# Altium integrated library TI Logic Buffer Line Driver.IntLib: 1037 symbols (part 17 of 25)
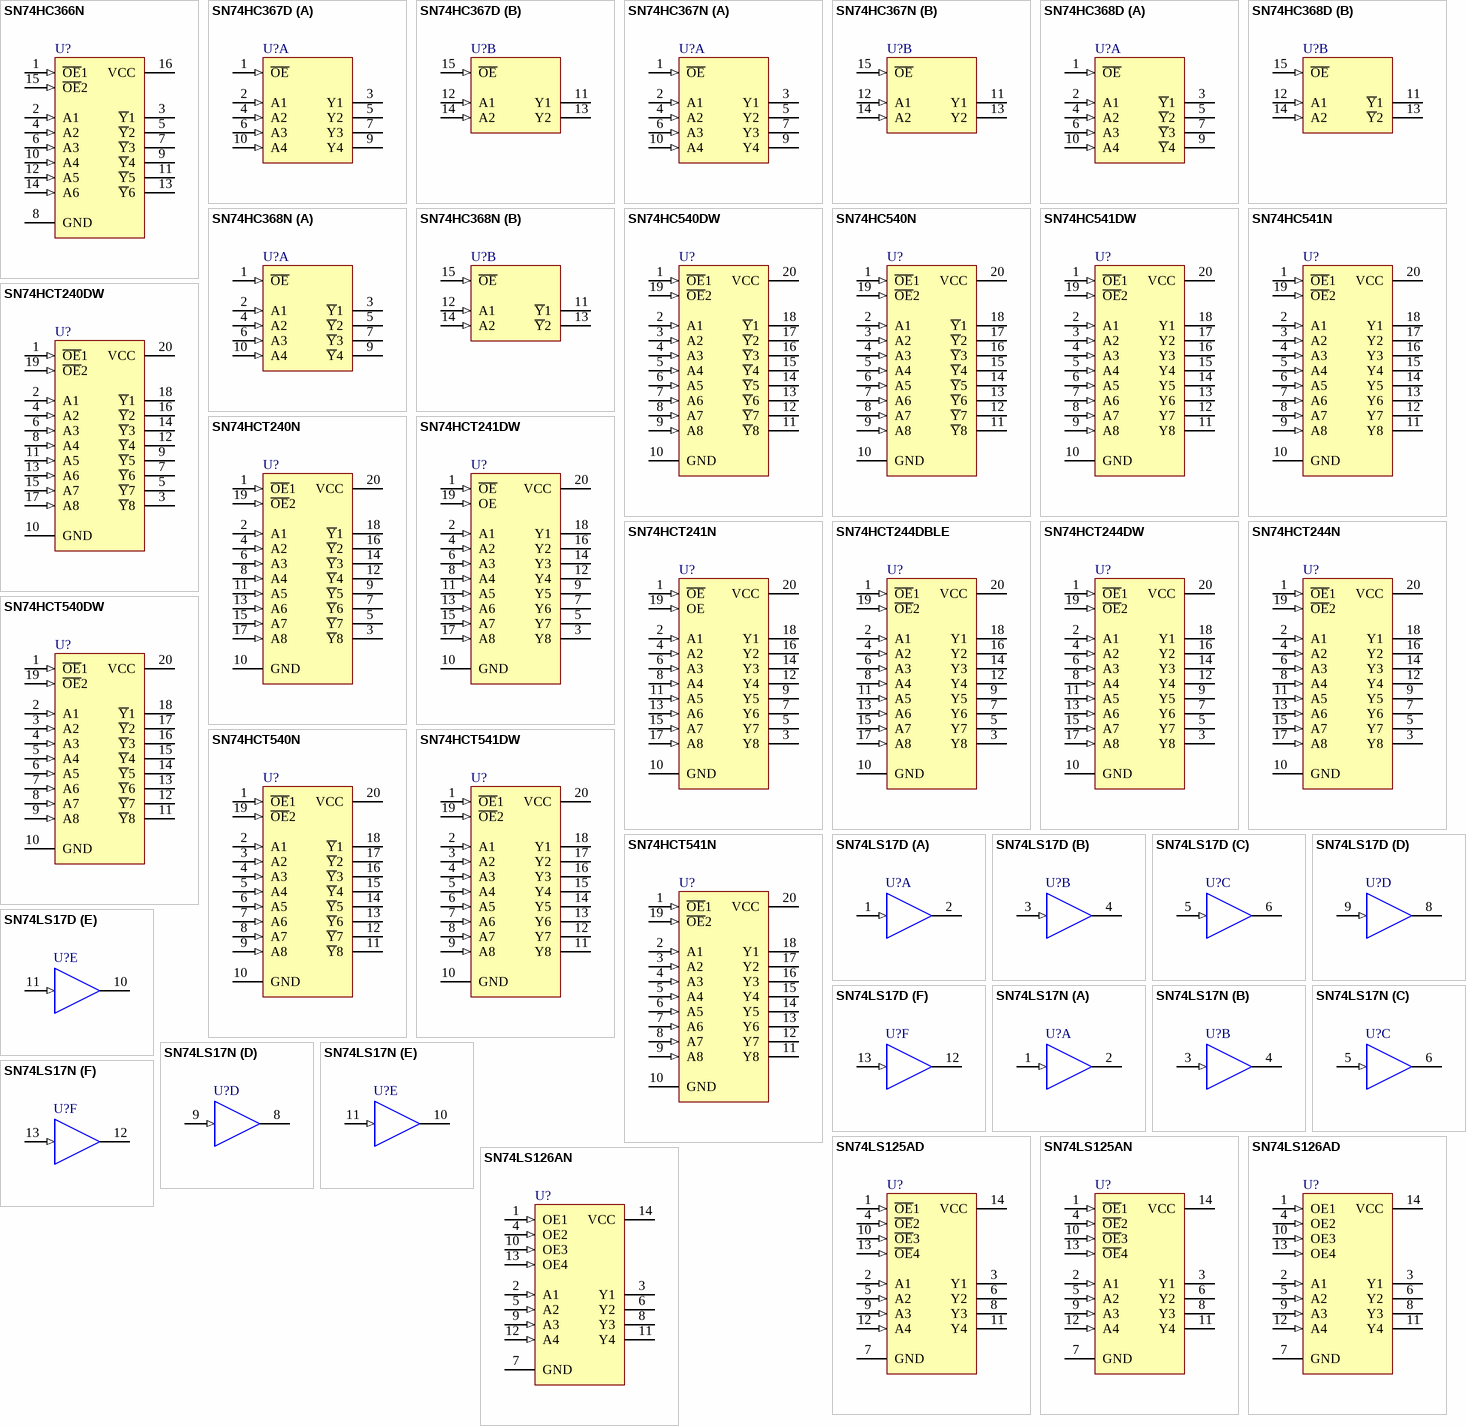
[diagram p61: symbols SN74HC366N to SN74LS126AN]

## SN74LS126AD
designator U?
Quadruple Bus Buffer with 3-State Outputs; Published: 8-Jun-2000; LatestRevisionDate: 13-Apr-2006; LatestRevisionNote: IPC-7351 Footprint Added.; DatasheetVersion: Mar-1988; PackageVersion: Jan-1998; PackageReference: D014; Publisher: Altium Limited; PackageDescription: 14-Pin Small Outline Integrated Circuit 1.27 mm Pitch; Code_IPC: SOIC127P600-14; ComponentLink1Description: Manufacturer Link; ComponentLink1URL: http://www.ti.com/; ComponentLink2Description: Datasheet; ComponentLink2URL: http://www-s.ti.com/sc/ds/sn74ls126a.pdf
footprint D014_N (SOIC, 14-Leads, Body 8.7x3.9mm, Pitch 1.27mm, IPC Medium Density)
footprint D014_L (SOIC, 14-Leads, Body 8.7x3.9mm, Pitch 1.27mm, IPC High Density)
footprint D014_M (SOIC, 14-Leads, Body 8.7x3.9mm, Pitch 1.27mm, IPC Low Density)
3D model D014 (14-Pin Small Outline Integrated Circuit 1.27 mm Pitch)
simulation model SN74LS126X4 (SIMCODE)
signal-integrity model SN74LS126AD
pins: 1 OE1 (in), 2 A1 (in), 3 Y1 (hiz), 4 OE2 (in), 5 A2 (in), 6 Y2 (hiz), 7 GND (power), 8 Y3 (hiz), 9 A3 (in), 10 OE3 (in), 11 Y4 (hiz), 12 A4 (in), 13 OE4 (in), 14 VCC (power)

## SN74LS126AN
designator U?
Quadruple Bus Buffer with 3-State Outputs; Published: 8-Jun-2000; LatestRevisionDate: 06-Jun-2005; LatestRevisionNote: Stylized 3D Model Added.; DatasheetVersion: Mar-1988; PackageVersion: Oct-1995; PackageReference: N014; Publisher: Altium Limited; PackageDescription: DIP; 14 Leads; Row Spacing 7.62 mm; Pitch 2.54 mm; ComponentLink1Description: Manufacturer Link; ComponentLink1URL: http://www.ti.com/; ComponentLink2Description: Datasheet; ComponentLink2URL: http://www-s.ti.com/sc/ds/sn74ls126a.pdf
footprint N014 (DIP; 14 Leads; Row Spacing 7.62 mm; Pitch 2.54 mm)
3D model N014 (DIP; 14 Leads; Row Spacing 7.62 mm; Pitch 2.54 mm)
simulation model SN74LS126X4 (SIMCODE)
signal-integrity model SN74LS126AN
pins: 1 OE1 (in), 2 A1 (in), 3 Y1 (hiz), 4 OE2 (in), 5 A2 (in), 6 Y2 (hiz), 7 GND (power), 8 Y3 (hiz), 9 A3 (in), 10 OE3 (in), 11 Y4 (hiz), 12 A4 (in), 13 OE4 (in), 14 VCC (power)

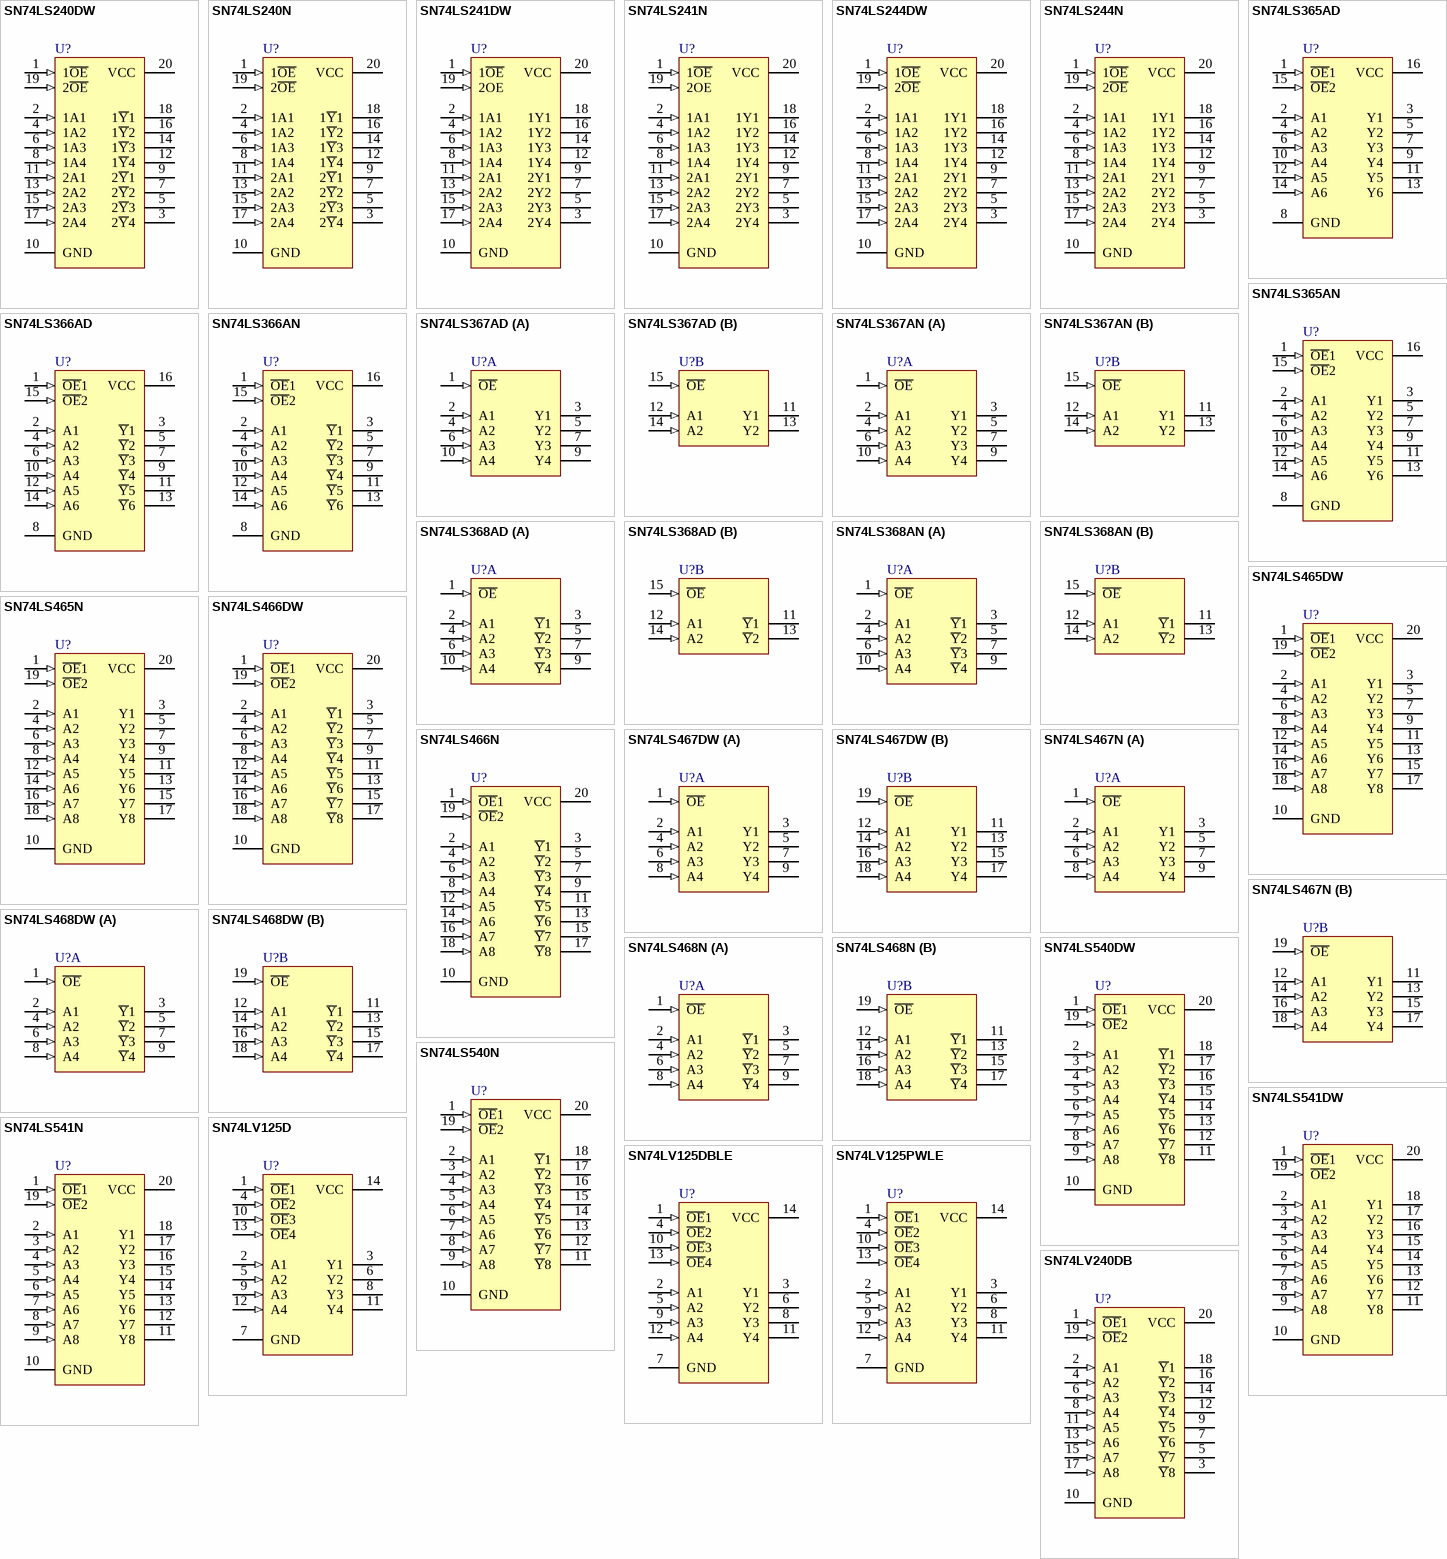
[diagram p30: symbols SN74LS240DW to SN74LV240DB]

## SN74LS240DW
designator U?
Octal Buffer and Line Driver with 3-State Outputs; ComponentAvailability: Obsolete; Published: 8-Jun-2000; LatestRevisionDate: 13-Apr-2006; LatestRevisionNote: IPC-7351 Footprint Added.; DatasheetVersion: Mar-1988; PackageVersion: Mar-2000; PackageReference: DW020; Publisher: Altium Limited; PackageDescription: 20-Pin Plastic Small Outline Integrated Circuit 1.27 mm Pitch; Code_JEDEC: MS-013; Code_IPC: SOIC127P1030-20; ComponentLink1Description: Manufacturer Link; ComponentLink1URL: http://www.ti.com/; ComponentLink2Description: Datasheet; ComponentLink2URL: http://www-s.ti.com/sc/ds/sn74ls240.pdf
footprint DW020_N (SOIC, 20-Leads, Body 12.8x7.5mm, Pitch 1.27mm, IPC Medium Density)
footprint DW020_L (SOIC, 20-Leads, Body 12.8x7.5mm, Pitch 1.27mm, IPC High Density)
footprint DW020_M (SOIC, 20-Leads, Body 12.8x7.5mm, Pitch 1.27mm, IPC Low Density)
3D model DW020 (20-Pin Plastic Small Outline Integrated Circuit 1.27 mm Pitch)
simulation model SN74LS240 (SIMCODE)
signal-integrity model SN74LS240DW
pins: 1 1~{OE} (in), 2 1A1 (in), 3 2~{Y}4 (hiz), 4 1A2 (in), 5 2~{Y}3 (hiz), 6 1A3 (in), 7 2~{Y}2 (hiz), 8 1A4 (in), 9 2~{Y}1 (hiz), 10 GND (power), 11 2A1 (in), 12 1~{Y}4 (hiz), 13 2A2 (in), 14 1~{Y}3 (hiz), 15 2A3 (in), 16 1~{Y}2 (hiz), 17 2A4 (in), 18 1~{Y}1 (hiz), 19 2~{OE} (in), 20 VCC (power)

## SN74LS240N
designator U?
Octal Buffer and Line Driver with 3-State Outputs; ComponentAvailability: Obsolete; Published: 8-Jun-2000; LatestRevisionDate: 06-Jun-2005; LatestRevisionNote: Stylized 3D Model Added.; DatasheetVersion: Mar-1988; PackageVersion: Oct-1995; PackageReference: N020; Publisher: Altium Limited; PackageDescription: DIP; 20 Leads; Row Spacing 7.62 mm; Pitch 2.54 mm; ComponentLink1Description: Manufacturer Link; ComponentLink1URL: http://www.ti.com/; ComponentLink2Description: Datasheet; ComponentLink2URL: http://www-s.ti.com/sc/ds/sn74ls240.pdf
footprint N020 (DIP; 20 Leads; Row Spacing 7.62 mm; Pitch 2.54 mm)
3D model J020 (DIP; 20 Leads; Row Spacing 7.62 mm; Pitch 2.54 mm)
simulation model SN74LS240 (SIMCODE)
signal-integrity model SN74LS240N
pins: 1 1~{OE} (in), 2 1A1 (in), 3 2~{Y}4 (hiz), 4 1A2 (in), 5 2~{Y}3 (hiz), 6 1A3 (in), 7 2~{Y}2 (hiz), 8 1A4 (in), 9 2~{Y}1 (hiz), 10 GND (power), 11 2A1 (in), 12 1~{Y}4 (hiz), 13 2A2 (in), 14 1~{Y}3 (hiz), 15 2A3 (in), 16 1~{Y}2 (hiz), 17 2A4 (in), 18 1~{Y}1 (hiz), 19 2~{OE} (in), 20 VCC (power)

## SN74LS241DW
designator U?
Octal Buffer and Line Driver with 3-State Outputs; ComponentAvailability: Obsolete; Published: 8-Jun-2000; LatestRevisionDate: 13-Apr-2006; LatestRevisionNote: IPC-7351 Footprint Added.; DatasheetVersion: Mar-1988; PackageVersion: Mar-2000; PackageReference: DW020; Publisher: Altium Limited; PackageDescription: 20-Pin Plastic Small Outline Integrated Circuit 1.27 mm Pitch; Code_JEDEC: MS-013; Code_IPC: SOIC127P1030-20; ComponentLink1Description: Manufacturer Link; ComponentLink1URL: http://www.ti.com/; ComponentLink2Description: Datasheet; ComponentLink2URL: http://www-s.ti.com/sc/ds/sn74ls240.pdf
footprint DW020_N (SOIC, 20-Leads, Body 12.8x7.5mm, Pitch 1.27mm, IPC Medium Density)
footprint DW020_L (SOIC, 20-Leads, Body 12.8x7.5mm, Pitch 1.27mm, IPC High Density)
footprint DW020_M (SOIC, 20-Leads, Body 12.8x7.5mm, Pitch 1.27mm, IPC Low Density)
3D model DW020 (20-Pin Plastic Small Outline Integrated Circuit 1.27 mm Pitch)
simulation model SN74LS241 (SIMCODE)
signal-integrity model SN74LS241DW
pins: 1 1~{OE} (in), 2 1A1 (in), 3 2Y4 (hiz), 4 1A2 (in), 5 2Y3 (hiz), 6 1A3 (in), 7 2Y2 (hiz), 8 1A4 (in), 9 2Y1 (hiz), 10 GND (power), 11 2A1 (in), 12 1Y4 (hiz), 13 2A2 (in), 14 1Y3 (hiz), 15 2A3 (in), 16 1Y2 (hiz), 17 2A4 (in), 18 1Y1 (hiz), 19 2OE (in), 20 VCC (power)

## SN74LS241N
designator U?
Octal Buffer and Line Driver with 3-State Outputs; ComponentAvailability: Obsolete; Published: 8-Jun-2000; LatestRevisionDate: 06-Jun-2005; LatestRevisionNote: Stylized 3D Model Added.; DatasheetVersion: Mar-1988; PackageVersion: Oct-1995; PackageReference: N020; Publisher: Altium Limited; PackageDescription: DIP; 20 Leads; Row Spacing 7.62 mm; Pitch 2.54 mm; ComponentLink1Description: Manufacturer Link; ComponentLink1URL: http://www.ti.com/; ComponentLink2Description: Datasheet; ComponentLink2URL: http://www-s.ti.com/sc/ds/sn74ls240.pdf
footprint N020 (DIP; 20 Leads; Row Spacing 7.62 mm; Pitch 2.54 mm)
3D model J020 (DIP; 20 Leads; Row Spacing 7.62 mm; Pitch 2.54 mm)
simulation model SN74LS241 (SIMCODE)
signal-integrity model SN74LS241N
pins: 1 1~{OE} (in), 2 1A1 (in), 3 2Y4 (hiz), 4 1A2 (in), 5 2Y3 (hiz), 6 1A3 (in), 7 2Y2 (hiz), 8 1A4 (in), 9 2Y1 (hiz), 10 GND (power), 11 2A1 (in), 12 1Y4 (hiz), 13 2A2 (in), 14 1Y3 (hiz), 15 2A3 (in), 16 1Y2 (hiz), 17 2A4 (in), 18 1Y1 (hiz), 19 2OE (in), 20 VCC (power)

## SN74LS244DW
designator U?
Octal Buffer and Line Driver with 3-State Outputs; ComponentAvailability: Obsolete; Published: 8-Jun-2000; LatestRevisionDate: 13-Apr-2006; LatestRevisionNote: IPC-7351 Footprint Added.; DatasheetVersion: Mar-1988; PackageVersion: Mar-2000; PackageReference: DW020; Publisher: Altium Limited; PackageDescription: 20-Pin Plastic Small Outline Integrated Circuit 1.27 mm Pitch; Code_JEDEC: MS-013; Code_IPC: SOIC127P1030-20; ComponentLink1Description: Manufacturer Link; ComponentLink1URL: http://www.ti.com/; ComponentLink2Description: Datasheet; ComponentLink2URL: http://www-s.ti.com/sc/ds/sn74ls240.pdf
footprint DW020_N (SOIC, 20-Leads, Body 12.8x7.5mm, Pitch 1.27mm, IPC Medium Density)
footprint DW020_L (SOIC, 20-Leads, Body 12.8x7.5mm, Pitch 1.27mm, IPC High Density)
footprint DW020_M (SOIC, 20-Leads, Body 12.8x7.5mm, Pitch 1.27mm, IPC Low Density)
3D model DW020 (20-Pin Plastic Small Outline Integrated Circuit 1.27 mm Pitch)
simulation model SN74LS244 (SIMCODE)
signal-integrity model SN74LS244DW
pins: 1 1~{OE} (in), 2 1A1 (in), 3 2Y4 (hiz), 4 1A2 (in), 5 2Y3 (hiz), 6 1A3 (in), 7 2Y2 (hiz), 8 1A4 (in), 9 2Y1 (hiz), 10 GND (power), 11 2A1 (in), 12 1Y4 (hiz), 13 2A2 (in), 14 1Y3 (hiz), 15 2A3 (in), 16 1Y2 (hiz), 17 2A4 (in), 18 1Y1 (hiz), 19 2~{OE} (in), 20 VCC (power)

## SN74LS244N
designator U?
Octal Buffer and Line Driver with 3-State Outputs; ComponentAvailability: Obsolete; Published: 8-Jun-2000; LatestRevisionDate: 06-Jun-2005; LatestRevisionNote: Stylized 3D Model Added.; DatasheetVersion: Mar-1988; PackageVersion: Oct-1995; PackageReference: N020; Publisher: Altium Limited; PackageDescription: DIP; 20 Leads; Row Spacing 7.62 mm; Pitch 2.54 mm; ComponentLink1Description: Manufacturer Link; ComponentLink1URL: http://www.ti.com/; ComponentLink2Description: Datasheet; ComponentLink2URL: http://www-s.ti.com/sc/ds/sn74ls240.pdf
footprint N020 (DIP; 20 Leads; Row Spacing 7.62 mm; Pitch 2.54 mm)
3D model J020 (DIP; 20 Leads; Row Spacing 7.62 mm; Pitch 2.54 mm)
simulation model SN74LS244 (SIMCODE)
signal-integrity model SN74LS244N
pins: 1 1~{OE} (in), 2 1A1 (in), 3 2Y4 (hiz), 4 1A2 (in), 5 2Y3 (hiz), 6 1A3 (in), 7 2Y2 (hiz), 8 1A4 (in), 9 2Y1 (hiz), 10 GND (power), 11 2A1 (in), 12 1Y4 (hiz), 13 2A2 (in), 14 1Y3 (hiz), 15 2A3 (in), 16 1Y2 (hiz), 17 2A4 (in), 18 1Y1 (hiz), 19 2~{OE} (in), 20 VCC (power)

## SN74LS365AD
designator U?
Hex Bus Driver with 3-State Outputs; Published: 8-Jun-2000; LatestRevisionDate: 13-Apr-2006; LatestRevisionNote: IPC-7351 Footprint Added.; DatasheetVersion: Mar-1988; PackageVersion: Jan-1998; PackageReference: D016; Publisher: Altium Limited; PackageDescription: 16-Pin Small Outline Integrated Circuit 1.27 mm Pitch; Code_IPC: SOIC127P600-16; ComponentLink1Description: Manufacturer Link; ComponentLink1URL: http://www.ti.com/; ComponentLink2Description: Datasheet; ComponentLink2URL: http://www-s.ti.com/sc/ds/sn74367a.pdf
footprint D016_N (SOIC, 16-Leads, Body 9.9x3.9mm, Pitch 1.27mm, IPC Medium Density)
footprint D016_L (SOIC, 16-Leads, Body 9.9x3.9mm, Pitch 1.27mm, IPC High Density)
footprint D016_M (SOIC, 16-Leads, Body 9.9x3.9mm, Pitch 1.27mm, IPC Low Density)
3D model D016 (16-Pin Small Outline Integrated Circuit 1.27 mm Pitch)
signal-integrity model SN74LS365AD
pins: 1 ~{OE}1 (in), 2 A1 (in), 3 Y1 (hiz), 4 A2 (in), 5 Y2 (hiz), 6 A3 (in), 7 Y3 (hiz), 8 GND (power), 9 Y4 (hiz), 10 A4 (in), 11 Y5 (hiz), 12 A5 (in), 13 Y6 (hiz), 14 A6 (in), 15 ~{OE}2 (in), 16 VCC (power)

## SN74LS365AN
designator U?
Hex Bus Driver with 3-State Outputs; Published: 8-Jun-2000; LatestRevisionDate: 06-Jun-2005; LatestRevisionNote: Stylized 3D Model Added.; DatasheetVersion: Mar-1988; PackageVersion: Oct-1995; PackageReference: N016; Publisher: Altium Limited; PackageDescription: DIP; 16 Leads; Row Spacing 7.62 mm; Pitch 2.54 mm; Code_JEDEC: MS-001-BB; ComponentLink1Description: Manufacturer Link; ComponentLink1URL: http://www.ti.com/; ComponentLink2Description: Datasheet; ComponentLink2URL: http://www-s.ti.com/sc/ds/sn74367a.pdf
footprint N016 (DIP; 16 Leads; Row Spacing 7.62 mm; Pitch 2.54 mm)
3D model N016 (DIP; 16 Leads; Row Spacing 7.62 mm; Pitch 2.54 mm)
signal-integrity model SN74LS365AN
pins: 1 ~{OE}1 (in), 2 A1 (in), 3 Y1 (hiz), 4 A2 (in), 5 Y2 (hiz), 6 A3 (in), 7 Y3 (hiz), 8 GND (power), 9 Y4 (hiz), 10 A4 (in), 11 Y5 (hiz), 12 A5 (in), 13 Y6 (hiz), 14 A6 (in), 15 ~{OE}2 (in), 16 VCC (power)

## SN74LS366AD
designator U?
Hex Bus Driver with 3-State Outputs; ComponentAvailability: Obsolete; Published: 8-Jun-2000; LatestRevisionDate: 13-Apr-2006; LatestRevisionNote: IPC-7351 Footprint Added.; DatasheetVersion: Mar-1988; PackageVersion: Jan-1998; PackageReference: D016; Publisher: Altium Limited; PackageDescription: 16-Pin Small Outline Integrated Circuit 1.27 mm Pitch; Code_IPC: SOIC127P600-16; ComponentLink1Description: Manufacturer Link; ComponentLink1URL: http://www.ti.com/; ComponentLink2Description: Datasheet; ComponentLink2URL: http://www-s.ti.com/sc/ds/sn74367a.pdf
footprint D016_N (SOIC, 16-Leads, Body 9.9x3.9mm, Pitch 1.27mm, IPC Medium Density)
footprint D016_L (SOIC, 16-Leads, Body 9.9x3.9mm, Pitch 1.27mm, IPC High Density)
footprint D016_M (SOIC, 16-Leads, Body 9.9x3.9mm, Pitch 1.27mm, IPC Low Density)
3D model D016 (16-Pin Small Outline Integrated Circuit 1.27 mm Pitch)
signal-integrity model SN74LS366AD
pins: 1 ~{OE}1 (in), 2 A1 (in), 3 ~{Y}1 (hiz), 4 A2 (in), 5 ~{Y}2 (hiz), 6 A3 (in), 7 ~{Y}3 (hiz), 8 GND (power), 9 ~{Y}4 (hiz), 10 A4 (in), 11 ~{Y}5 (hiz), 12 A5 (in), 13 ~{Y}6 (hiz), 14 A6 (in), 15 ~{OE}2 (in), 16 VCC (power)

## SN74LS366AN
designator U?
Hex Bus Driver with 3-State Outputs; ComponentAvailability: Obsolete; Published: 8-Jun-2000; LatestRevisionDate: 06-Jun-2005; LatestRevisionNote: Stylized 3D Model Added.; DatasheetVersion: Mar-1988; PackageVersion: Oct-1995; PackageReference: N016; Publisher: Altium Limited; PackageDescription: DIP; 16 Leads; Row Spacing 7.62 mm; Pitch 2.54 mm; Code_JEDEC: MS-001-BB; ComponentLink1Description: Manufacturer Link; ComponentLink1URL: http://www.ti.com/; ComponentLink2Description: Datasheet; ComponentLink2URL: http://www-s.ti.com/sc/ds/sn74367a.pdf
footprint N016 (DIP; 16 Leads; Row Spacing 7.62 mm; Pitch 2.54 mm)
3D model N016 (DIP; 16 Leads; Row Spacing 7.62 mm; Pitch 2.54 mm)
signal-integrity model SN74LS366AN
pins: 1 ~{OE}1 (in), 2 A1 (in), 3 ~{Y}1 (hiz), 4 A2 (in), 5 ~{Y}2 (hiz), 6 A3 (in), 7 ~{Y}3 (hiz), 8 GND (power), 9 ~{Y}4 (hiz), 10 A4 (in), 11 ~{Y}5 (hiz), 12 A5 (in), 13 ~{Y}6 (hiz), 14 A6 (in), 15 ~{OE}2 (in), 16 VCC (power)

## SN74LS367AD
designator U?
Hex Bus Driver with 3-State Outputs; Published: 8-Jun-2000; LatestRevisionDate: 13-Apr-2006; LatestRevisionNote: IPC-7351 Footprint Added.; DatasheetVersion: Mar-1988; PackageVersion: Jan-1998; PackageReference: D016; Publisher: Altium Limited; PackageDescription: 16-Pin Small Outline Integrated Circuit 1.27 mm Pitch; Code_IPC: SOIC127P600-16; ComponentLink1Description: Manufacturer Link; ComponentLink1URL: http://www.ti.com/; ComponentLink2Description: Datasheet; ComponentLink2URL: http://www-s.ti.com/sc/ds/sn74367a.pdf
footprint D016_N (SOIC, 16-Leads, Body 9.9x3.9mm, Pitch 1.27mm, IPC Medium Density)
footprint D016_L (SOIC, 16-Leads, Body 9.9x3.9mm, Pitch 1.27mm, IPC High Density)
footprint D016_M (SOIC, 16-Leads, Body 9.9x3.9mm, Pitch 1.27mm, IPC Low Density)
3D model D016 (16-Pin Small Outline Integrated Circuit 1.27 mm Pitch)
signal-integrity model SN74LS367AD
pins on every part: 8 GND (power) hidden to GND, 16 VCC (power) hidden to VCC
part A pins: 1 ~{OE} (in), 2 A1 (in), 3 Y1 (hiz), 4 A2 (in), 5 Y2 (hiz), 6 A3 (in), 7 Y3 (hiz), 9 Y4 (hiz), 10 A4 (in)
part B pins: 11 Y1 (hiz), 12 A1 (in), 13 Y2 (hiz), 14 A2 (in), 15 ~{OE} (in)

## SN74LS367AN
designator U?
Hex Bus Driver with 3-State Outputs; Published: 8-Jun-2000; LatestRevisionDate: 06-Jun-2005; LatestRevisionNote: Stylized 3D Model Added.; DatasheetVersion: Mar-1988; PackageVersion: Oct-1995; PackageReference: N016; Publisher: Altium Limited; PackageDescription: DIP; 16 Leads; Row Spacing 7.62 mm; Pitch 2.54 mm; Code_JEDEC: MS-001-BB; ComponentLink1Description: Manufacturer Link; ComponentLink1URL: http://www.ti.com/; ComponentLink2Description: Datasheet; ComponentLink2URL: http://www-s.ti.com/sc/ds/sn74367a.pdf
footprint N016 (DIP; 16 Leads; Row Spacing 7.62 mm; Pitch 2.54 mm)
3D model N016 (DIP; 16 Leads; Row Spacing 7.62 mm; Pitch 2.54 mm)
signal-integrity model SN74LS367AN
pins on every part: 8 GND (power) hidden to GND, 16 VCC (power) hidden to VCC
part A pins: 1 ~{OE} (in), 2 A1 (in), 3 Y1 (hiz), 4 A2 (in), 5 Y2 (hiz), 6 A3 (in), 7 Y3 (hiz), 9 Y4 (hiz), 10 A4 (in)
part B pins: 11 Y1 (hiz), 12 A1 (in), 13 Y2 (hiz), 14 A2 (in), 15 ~{OE} (in)

## SN74LS368AD
designator U?
Hex Bus Driver with 3-State Outputs; Published: 8-Jun-2000; LatestRevisionDate: 13-Apr-2006; LatestRevisionNote: IPC-7351 Footprint Added.; DatasheetVersion: Mar-1988; PackageVersion: Jan-1998; PackageReference: D016; Publisher: Altium Limited; PackageDescription: 16-Pin Small Outline Integrated Circuit 1.27 mm Pitch; Code_IPC: SOIC127P600-16; ComponentLink1Description: Manufacturer Link; ComponentLink1URL: http://www.ti.com/; ComponentLink2Description: Datasheet; ComponentLink2URL: http://www-s.ti.com/sc/ds/sn74367a.pdf
footprint D016_N (SOIC, 16-Leads, Body 9.9x3.9mm, Pitch 1.27mm, IPC Medium Density)
footprint D016_L (SOIC, 16-Leads, Body 9.9x3.9mm, Pitch 1.27mm, IPC High Density)
footprint D016_M (SOIC, 16-Leads, Body 9.9x3.9mm, Pitch 1.27mm, IPC Low Density)
3D model D016 (16-Pin Small Outline Integrated Circuit 1.27 mm Pitch)
signal-integrity model SN74LS368AD
pins on every part: 8 GND (power) hidden to GND, 16 VCC (power) hidden to VCC
part A pins: 1 ~{OE} (in), 2 A1 (in), 3 ~{Y}1 (hiz), 4 A2 (in), 5 ~{Y}2 (hiz), 6 A3 (in), 7 ~{Y}3 (hiz), 9 ~{Y}4 (hiz), 10 A4 (in)
part B pins: 11 ~{Y}1 (hiz), 12 A1 (in), 13 ~{Y}2 (hiz), 14 A2 (in), 15 ~{OE} (in)

## SN74LS368AN
designator U?
Hex Bus Driver with 3-State Outputs; Published: 8-Jun-2000; LatestRevisionDate: 06-Jun-2005; LatestRevisionNote: Stylized 3D Model Added.; DatasheetVersion: Mar-1988; PackageVersion: Oct-1995; PackageReference: N016; Publisher: Altium Limited; PackageDescription: DIP; 16 Leads; Row Spacing 7.62 mm; Pitch 2.54 mm; Code_JEDEC: MS-001-BB; ComponentLink1Description: Manufacturer Link; ComponentLink1URL: http://www.ti.com/; ComponentLink2Description: Datasheet; ComponentLink2URL: http://www-s.ti.com/sc/ds/sn74367a.pdf
footprint N016 (DIP; 16 Leads; Row Spacing 7.62 mm; Pitch 2.54 mm)
3D model N016 (DIP; 16 Leads; Row Spacing 7.62 mm; Pitch 2.54 mm)
signal-integrity model SN74LS368AN
pins on every part: 8 GND (power) hidden to GND, 16 VCC (power) hidden to VCC
part A pins: 1 ~{OE} (in), 2 A1 (in), 3 ~{Y}1 (hiz), 4 A2 (in), 5 ~{Y}2 (hiz), 6 A3 (in), 7 ~{Y}3 (hiz), 9 ~{Y}4 (hiz), 10 A4 (in)
part B pins: 11 ~{Y}1 (hiz), 12 A1 (in), 13 ~{Y}2 (hiz), 14 A2 (in), 15 ~{OE} (in)

## SN74LS465DW
designator U?
Octal Buffer with 3-State Outputs; Published: 8-Jun-2000; LatestRevisionDate: 13-Apr-2006; LatestRevisionNote: IPC-7351 Footprint Added.; DatasheetVersion: Mar-1988; PackageVersion: Mar-2000; PackageReference: DW020; Publisher: Altium Limited; PackageDescription: 20-Pin Plastic Small Outline Integrated Circuit 1.27 mm Pitch; Code_JEDEC: MS-013; Code_IPC: SOIC127P1030-20; ComponentLink1Description: Manufacturer Link; ComponentLink1URL: http://www.ti.com/; ComponentLink2Description: Datasheet; ComponentLink2URL: http://www-s.ti.com/sc/ds/sn74ls465.pdf
footprint DW020_N (SOIC, 20-Leads, Body 12.8x7.5mm, Pitch 1.27mm, IPC Medium Density)
footprint DW020_L (SOIC, 20-Leads, Body 12.8x7.5mm, Pitch 1.27mm, IPC High Density)
footprint DW020_M (SOIC, 20-Leads, Body 12.8x7.5mm, Pitch 1.27mm, IPC Low Density)
3D model DW020 (20-Pin Plastic Small Outline Integrated Circuit 1.27 mm Pitch)
signal-integrity model SN74LS465DW
pins: 1 ~{OE}1 (in), 2 A1 (in), 3 Y1 (hiz), 4 A2 (in), 5 Y2 (hiz), 6 A3 (in), 7 Y3 (hiz), 8 A4 (in), 9 Y4 (hiz), 10 GND (power), 11 Y5 (hiz), 12 A5 (in), 13 Y6 (hiz), 14 A6 (in), 15 Y7 (hiz), 16 A7 (in), 17 Y8 (hiz), 18 A8 (in), 19 ~{OE}2 (in), 20 VCC (power)

## SN74LS465N
designator U?
Octal Buffer with 3-State Outputs; Published: 8-Jun-2000; LatestRevisionDate: 06-Jun-2005; LatestRevisionNote: Stylized 3D Model Added.; DatasheetVersion: Mar-1988; PackageVersion: Oct-1995; PackageReference: N020; Publisher: Altium Limited; PackageDescription: DIP; 20 Leads; Row Spacing 7.62 mm; Pitch 2.54 mm; ComponentLink1Description: Manufacturer Link; ComponentLink1URL: http://www.ti.com/; ComponentLink2Description: Datasheet; ComponentLink2URL: http://www-s.ti.com/sc/ds/sn74ls465.pdf
footprint N020 (DIP; 20 Leads; Row Spacing 7.62 mm; Pitch 2.54 mm)
3D model J020 (DIP; 20 Leads; Row Spacing 7.62 mm; Pitch 2.54 mm)
signal-integrity model SN74LS465N
pins: 1 ~{OE}1 (in), 2 A1 (in), 3 Y1 (hiz), 4 A2 (in), 5 Y2 (hiz), 6 A3 (in), 7 Y3 (hiz), 8 A4 (in), 9 Y4 (hiz), 10 GND (power), 11 Y5 (hiz), 12 A5 (in), 13 Y6 (hiz), 14 A6 (in), 15 Y7 (hiz), 16 A7 (in), 17 Y8 (hiz), 18 A8 (in), 19 ~{OE}2 (in), 20 VCC (power)

## SN74LS466DW
designator U?
Octal Buffer with 3-State Outputs; ComponentAvailability: Obsolete; Published: 8-Jun-2000; LatestRevisionDate: 13-Apr-2006; LatestRevisionNote: IPC-7351 Footprint Added.; DatasheetVersion: Mar-1988; PackageVersion: Mar-2000; PackageReference: DW020; Publisher: Altium Limited; PackageDescription: 20-Pin Plastic Small Outline Integrated Circuit 1.27 mm Pitch; Code_JEDEC: MS-013; Code_IPC: SOIC127P1030-20; ComponentLink1Description: Manufacturer Link; ComponentLink1URL: http://www.ti.com/; ComponentLink2Description: Datasheet; ComponentLink2URL: http://www-s.ti.com/sc/ds/sn74ls465.pdf
footprint DW020_N (SOIC, 20-Leads, Body 12.8x7.5mm, Pitch 1.27mm, IPC Medium Density)
footprint DW020_L (SOIC, 20-Leads, Body 12.8x7.5mm, Pitch 1.27mm, IPC High Density)
footprint DW020_M (SOIC, 20-Leads, Body 12.8x7.5mm, Pitch 1.27mm, IPC Low Density)
3D model DW020 (20-Pin Plastic Small Outline Integrated Circuit 1.27 mm Pitch)
signal-integrity model SN74LS466DW
pins: 1 ~{OE}1 (in), 2 A1 (in), 3 ~{Y}1 (hiz), 4 A2 (in), 5 ~{Y}2 (hiz), 6 A3 (in), 7 ~{Y}3 (hiz), 8 A4 (in), 9 ~{Y}4 (hiz), 10 GND (power), 11 ~{Y}5 (hiz), 12 A5 (in), 13 ~{Y}6 (hiz), 14 A6 (in), 15 ~{Y}7 (hiz), 16 A7 (in), 17 ~{Y}8 (hiz), 18 A8 (in), 19 ~{OE}2 (in), 20 VCC (power)

## SN74LS466N
designator U?
Octal Buffer with 3-State Outputs; ComponentAvailability: Obsolete; Published: 8-Jun-2000; LatestRevisionDate: 06-Jun-2005; LatestRevisionNote: Stylized 3D Model Added.; DatasheetVersion: Mar-1988; PackageVersion: Oct-1995; PackageReference: N020; Publisher: Altium Limited; PackageDescription: DIP; 20 Leads; Row Spacing 7.62 mm; Pitch 2.54 mm; ComponentLink1Description: Manufacturer Link; ComponentLink1URL: http://www.ti.com/; ComponentLink2Description: Datasheet; ComponentLink2URL: http://www-s.ti.com/sc/ds/sn74ls465.pdf
footprint N020 (DIP; 20 Leads; Row Spacing 7.62 mm; Pitch 2.54 mm)
3D model J020 (DIP; 20 Leads; Row Spacing 7.62 mm; Pitch 2.54 mm)
signal-integrity model SN74LS466N
pins: 1 ~{OE}1 (in), 2 A1 (in), 3 ~{Y}1 (hiz), 4 A2 (in), 5 ~{Y}2 (hiz), 6 A3 (in), 7 ~{Y}3 (hiz), 8 A4 (in), 9 ~{Y}4 (hiz), 10 GND (power), 11 ~{Y}5 (hiz), 12 A5 (in), 13 ~{Y}6 (hiz), 14 A6 (in), 15 ~{Y}7 (hiz), 16 A7 (in), 17 ~{Y}8 (hiz), 18 A8 (in), 19 ~{OE}2 (in), 20 VCC (power)

## SN74LS467DW
designator U?
Octal Buffer with 3-State Outputs; ComponentAvailability: Obsolete; Published: 8-Jun-2000; LatestRevisionDate: 13-Apr-2006; LatestRevisionNote: IPC-7351 Footprint Added.; DatasheetVersion: Mar-1988; PackageVersion: Mar-2000; PackageReference: DW020; Publisher: Altium Limited; PackageDescription: 20-Pin Plastic Small Outline Integrated Circuit 1.27 mm Pitch; Code_JEDEC: MS-013; Code_IPC: SOIC127P1030-20; ComponentLink1Description: Manufacturer Link; ComponentLink1URL: http://www.ti.com/; ComponentLink2Description: Datasheet; ComponentLink2URL: http://www-s.ti.com/sc/ds/sn74ls465.pdf; ComponentLink3Description: Discontinuation Notice; ComponentLink3URL: http://focus.ti.com/docs/prod/folders/print/sn74ls467.html
footprint DW020_N (SOIC, 20-Leads, Body 12.8x7.5mm, Pitch 1.27mm, IPC Medium Density)
footprint DW020_L (SOIC, 20-Leads, Body 12.8x7.5mm, Pitch 1.27mm, IPC High Density)
footprint DW020_M (SOIC, 20-Leads, Body 12.8x7.5mm, Pitch 1.27mm, IPC Low Density)
3D model DW020 (20-Pin Plastic Small Outline Integrated Circuit 1.27 mm Pitch)
signal-integrity model SN74LS467DW
pins on every part: 10 GND (power) hidden to GND, 20 VCC (power) hidden to VCC
part A pins: 1 ~{OE} (in), 2 A1 (in), 3 Y1 (hiz), 4 A2 (in), 5 Y2 (hiz), 6 A3 (in), 7 Y3 (hiz), 8 A4 (in), 9 Y4 (hiz)
part B pins: 11 Y1 (hiz), 12 A1 (in), 13 Y2 (hiz), 14 A2 (in), 15 Y3 (hiz), 16 A3 (in), 17 Y4 (hiz), 18 A4 (in), 19 ~{OE} (in)

## SN74LS467N
designator U?
Octal Buffer with 3-State Outputs; ComponentAvailability: Obsolete; Published: 8-Jun-2000; LatestRevisionDate: 06-Jun-2005; LatestRevisionNote: Stylized 3D Model Added.; DatasheetVersion: Mar-1988; PackageVersion: Oct-1995; PackageReference: N020; Publisher: Altium Limited; PackageDescription: DIP; 20 Leads; Row Spacing 7.62 mm; Pitch 2.54 mm; ComponentLink1Description: Manufacturer Link; ComponentLink1URL: http://www.ti.com/; ComponentLink2Description: Datasheet; ComponentLink2URL: http://www-s.ti.com/sc/ds/sn74ls465.pdf; ComponentLink3Description: Discontinuation Notice; ComponentLink3URL: http://focus.ti.com/docs/prod/folders/print/sn74ls467.html
footprint N020 (DIP; 20 Leads; Row Spacing 7.62 mm; Pitch 2.54 mm)
3D model J020 (DIP; 20 Leads; Row Spacing 7.62 mm; Pitch 2.54 mm)
signal-integrity model SN74LS467N
pins on every part: 10 GND (power) hidden to GND, 20 VCC (power) hidden to VCC
part A pins: 1 ~{OE} (in), 2 A1 (in), 3 Y1 (hiz), 4 A2 (in), 5 Y2 (hiz), 6 A3 (in), 7 Y3 (hiz), 8 A4 (in), 9 Y4 (hiz)
part B pins: 11 Y1 (hiz), 12 A1 (in), 13 Y2 (hiz), 14 A2 (in), 15 Y3 (hiz), 16 A3 (in), 17 Y4 (hiz), 18 A4 (in), 19 ~{OE} (in)

## SN74LS468DW
designator U?
Octal Buffer with 3-State Outputs; ComponentAvailability: Obsolete; Published: 8-Jun-2000; LatestRevisionDate: 13-Apr-2006; LatestRevisionNote: IPC-7351 Footprint Added.; DatasheetVersion: Mar-1988; PackageVersion: Mar-2000; PackageReference: DW020; Publisher: Altium Limited; PackageDescription: 20-Pin Plastic Small Outline Integrated Circuit 1.27 mm Pitch; Code_JEDEC: MS-013; Code_IPC: SOIC127P1030-20; ComponentLink1Description: Manufacturer Link; ComponentLink1URL: http://www.ti.com/; ComponentLink2Description: Datasheet; ComponentLink2URL: http://www-s.ti.com/sc/ds/sn74ls465.pdf; ComponentLink3Description: Discontinuation Notice; ComponentLink3URL: http://focus.ti.com/docs/prod/folders/print/sn74ls468.html
footprint DW020_N (SOIC, 20-Leads, Body 12.8x7.5mm, Pitch 1.27mm, IPC Medium Density)
footprint DW020_L (SOIC, 20-Leads, Body 12.8x7.5mm, Pitch 1.27mm, IPC High Density)
footprint DW020_M (SOIC, 20-Leads, Body 12.8x7.5mm, Pitch 1.27mm, IPC Low Density)
3D model DW020 (20-Pin Plastic Small Outline Integrated Circuit 1.27 mm Pitch)
signal-integrity model SN74LS468DW
pins on every part: 10 GND (power) hidden to GND, 20 VCC (power) hidden to VCC
part A pins: 1 ~{OE} (in), 2 A1 (in), 3 ~{Y}1 (hiz), 4 A2 (in), 5 ~{Y}2 (hiz), 6 A3 (in), 7 ~{Y}3 (hiz), 8 A4 (in), 9 ~{Y}4 (hiz)
part B pins: 11 ~{Y}1 (hiz), 12 A1 (in), 13 ~{Y}2 (hiz), 14 A2 (in), 15 ~{Y}3 (hiz), 16 A3 (in), 17 ~{Y}4 (hiz), 18 A4 (in), 19 ~{OE} (in)

## SN74LS468N
designator U?
Octal Buffer with 3-State Outputs; ComponentAvailability: Obsolete; Published: 8-Jun-2000; LatestRevisionDate: 06-Jun-2005; LatestRevisionNote: Stylized 3D Model Added.; DatasheetVersion: Mar-1988; PackageVersion: Oct-1995; PackageReference: N020; Publisher: Altium Limited; PackageDescription: DIP; 20 Leads; Row Spacing 7.62 mm; Pitch 2.54 mm; ComponentLink1Description: Manufacturer Link; ComponentLink1URL: http://www.ti.com/; ComponentLink2Description: Datasheet; ComponentLink2URL: http://www-s.ti.com/sc/ds/sn74ls465.pdf; ComponentLink3Description: Discontinuation Notice; ComponentLink3URL: http://focus.ti.com/docs/prod/folders/print/sn74ls468.html
footprint N020 (DIP; 20 Leads; Row Spacing 7.62 mm; Pitch 2.54 mm)
3D model J020 (DIP; 20 Leads; Row Spacing 7.62 mm; Pitch 2.54 mm)
signal-integrity model SN74LS468N
pins on every part: 10 GND (power) hidden to GND, 20 VCC (power) hidden to VCC
part A pins: 1 ~{OE} (in), 2 A1 (in), 3 ~{Y}1 (hiz), 4 A2 (in), 5 ~{Y}2 (hiz), 6 A3 (in), 7 ~{Y}3 (hiz), 8 A4 (in), 9 ~{Y}4 (hiz)
part B pins: 11 ~{Y}1 (hiz), 12 A1 (in), 13 ~{Y}2 (hiz), 14 A2 (in), 15 ~{Y}3 (hiz), 16 A3 (in), 17 ~{Y}4 (hiz), 18 A4 (in), 19 ~{OE} (in)

## SN74LS540DW
designator U?
Octal Buffer and Line Driver with 3-State Outputs; Published: 8-Jun-2000; LatestRevisionDate: 13-Apr-2006; LatestRevisionNote: IPC-7351 Footprint Added.; DatasheetVersion: Mar-1988; PackageVersion: Mar-2000; PackageReference: DW020; Publisher: Altium Limited; PackageDescription: 20-Pin Plastic Small Outline Integrated Circuit 1.27 mm Pitch; Code_JEDEC: MS-013; Code_IPC: SOIC127P1030-20; ComponentLink1Description: Manufacturer Link; ComponentLink1URL: http://www.ti.com/; ComponentLink2Description: Datasheet; ComponentLink2URL: http://www-s.ti.com/sc/ds/sn74ls540.pdf
footprint DW020_N (SOIC, 20-Leads, Body 12.8x7.5mm, Pitch 1.27mm, IPC Medium Density)
footprint DW020_L (SOIC, 20-Leads, Body 12.8x7.5mm, Pitch 1.27mm, IPC High Density)
footprint DW020_M (SOIC, 20-Leads, Body 12.8x7.5mm, Pitch 1.27mm, IPC Low Density)
3D model DW020 (20-Pin Plastic Small Outline Integrated Circuit 1.27 mm Pitch)
signal-integrity model SN74LS540DW
pins: 1 ~{OE}1 (in), 2 A1 (in), 3 A2 (in), 4 A3 (in), 5 A4 (in), 6 A5 (in), 7 A6 (in), 8 A7 (in), 9 A8 (in), 10 GND (power), 11 ~{Y}8 (hiz), 12 ~{Y}7 (hiz), 13 ~{Y}6 (hiz), 14 ~{Y}5 (hiz), 15 ~{Y}4 (hiz), 16 ~{Y}3 (hiz), 17 ~{Y}2 (hiz), 18 ~{Y}1 (hiz), 19 ~{OE}2 (in), 20 VCC (power)

## SN74LS540N
designator U?
Octal Buffer and Line Driver with 3-State Outputs; Published: 8-Jun-2000; LatestRevisionDate: 06-Jun-2005; LatestRevisionNote: Stylized 3D Model Added.; DatasheetVersion: Mar-1988; PackageVersion: Oct-1995; PackageReference: N020; Publisher: Altium Limited; PackageDescription: DIP; 20 Leads; Row Spacing 7.62 mm; Pitch 2.54 mm; ComponentLink1Description: Manufacturer Link; ComponentLink1URL: http://www.ti.com/; ComponentLink2Description: Datasheet; ComponentLink2URL: http://www-s.ti.com/sc/ds/sn74ls540.pdf
footprint N020 (DIP; 20 Leads; Row Spacing 7.62 mm; Pitch 2.54 mm)
3D model J020 (DIP; 20 Leads; Row Spacing 7.62 mm; Pitch 2.54 mm)
signal-integrity model SN74LS540N
pins: 1 ~{OE}1 (in), 2 A1 (in), 3 A2 (in), 4 A3 (in), 5 A4 (in), 6 A5 (in), 7 A6 (in), 8 A7 (in), 9 A8 (in), 10 GND (power), 11 ~{Y}8 (hiz), 12 ~{Y}7 (hiz), 13 ~{Y}6 (hiz), 14 ~{Y}5 (hiz), 15 ~{Y}4 (hiz), 16 ~{Y}3 (hiz), 17 ~{Y}2 (hiz), 18 ~{Y}1 (hiz), 19 ~{OE}2 (in), 20 VCC (power)

## SN74LS541DW
designator U?
Octal Buffer and Line Driver with 3-State Outputs; Published: 8-Jun-2000; LatestRevisionDate: 13-Apr-2006; LatestRevisionNote: IPC-7351 Footprint Added.; DatasheetVersion: Mar-1988; PackageVersion: Mar-2000; PackageReference: DW020; Publisher: Altium Limited; PackageDescription: 20-Pin Plastic Small Outline Integrated Circuit 1.27 mm Pitch; Code_JEDEC: MS-013; Code_IPC: SOIC127P1030-20; ComponentLink1Description: Manufacturer Link; ComponentLink1URL: http://www.ti.com/; ComponentLink2Description: Datasheet; ComponentLink2URL: http://www-s.ti.com/sc/ds/sn74ls540.pdf
footprint DW020_N (SOIC, 20-Leads, Body 12.8x7.5mm, Pitch 1.27mm, IPC Medium Density)
footprint DW020_L (SOIC, 20-Leads, Body 12.8x7.5mm, Pitch 1.27mm, IPC High Density)
footprint DW020_M (SOIC, 20-Leads, Body 12.8x7.5mm, Pitch 1.27mm, IPC Low Density)
3D model DW020 (20-Pin Plastic Small Outline Integrated Circuit 1.27 mm Pitch)
signal-integrity model SN74LS541DW
pins: 1 ~{OE}1 (in), 2 A1 (in), 3 A2 (in), 4 A3 (in), 5 A4 (in), 6 A5 (in), 7 A6 (in), 8 A7 (in), 9 A8 (in), 10 GND (power), 11 Y8 (hiz), 12 Y7 (hiz), 13 Y6 (hiz), 14 Y5 (hiz), 15 Y4 (hiz), 16 Y3 (hiz), 17 Y2 (hiz), 18 Y1 (hiz), 19 ~{OE}2 (in), 20 VCC (power)

## SN74LS541N
designator U?
Octal Buffer and Line Driver with 3-State Outputs; Published: 8-Jun-2000; LatestRevisionDate: 06-Jun-2005; LatestRevisionNote: Stylized 3D Model Added.; DatasheetVersion: Mar-1988; PackageVersion: Oct-1995; PackageReference: N020; Publisher: Altium Limited; PackageDescription: DIP; 20 Leads; Row Spacing 7.62 mm; Pitch 2.54 mm; ComponentLink1Description: Manufacturer Link; ComponentLink1URL: http://www.ti.com/; ComponentLink2Description: Datasheet; ComponentLink2URL: http://www-s.ti.com/sc/ds/sn74ls540.pdf
footprint N020 (DIP; 20 Leads; Row Spacing 7.62 mm; Pitch 2.54 mm)
3D model J020 (DIP; 20 Leads; Row Spacing 7.62 mm; Pitch 2.54 mm)
signal-integrity model SN74LS541N
pins: 1 ~{OE}1 (in), 2 A1 (in), 3 A2 (in), 4 A3 (in), 5 A4 (in), 6 A5 (in), 7 A6 (in), 8 A7 (in), 9 A8 (in), 10 GND (power), 11 Y8 (hiz), 12 Y7 (hiz), 13 Y6 (hiz), 14 Y5 (hiz), 15 Y4 (hiz), 16 Y3 (hiz), 17 Y2 (hiz), 18 Y1 (hiz), 19 ~{OE}2 (in), 20 VCC (power)

## SN74LV125D
designator U?
Quadruple Bus Buffer Gate with 3-State Outputs; ComponentAvailability: Obsolete; Published: 8-Jun-2000; LatestRevisionDate: 13-Apr-2006; LatestRevisionNote: IPC-7351 Footprint Added.; DatasheetVersion: Apr-1996; PackageVersion: Jan-1998; PackageReference: D014; Publisher: Altium Limited; PackageDescription: 14-Pin Small Outline Integrated Circuit 1.27 mm Pitch; Code_IPC: SOIC127P600-14; ComponentLink1Description: Manufacturer Link; ComponentLink1URL: http://www.ti.com/; ComponentLink2Description: Datasheet; ComponentLink2URL: http://www-s.ti.com/sc/ds/sn74lv125.pdf
footprint D014_N (SOIC, 14-Leads, Body 8.7x3.9mm, Pitch 1.27mm, IPC Medium Density)
footprint D014_L (SOIC, 14-Leads, Body 8.7x3.9mm, Pitch 1.27mm, IPC High Density)
footprint D014_M (SOIC, 14-Leads, Body 8.7x3.9mm, Pitch 1.27mm, IPC Low Density)
3D model D014 (14-Pin Small Outline Integrated Circuit 1.27 mm Pitch)
signal-integrity model SN74LV125D
pins: 1 ~{OE}1 (in), 2 A1 (in), 3 Y1 (hiz), 4 ~{OE}2 (in), 5 A2 (in), 6 Y2 (hiz), 7 GND (power), 8 Y3 (hiz), 9 A3 (in), 10 ~{OE}3 (in), 11 Y4 (hiz), 12 A4 (in), 13 ~{OE}4 (in), 14 VCC (power)

## SN74LV125DBLE
designator U?
Quadruple Bus Buffer Gate with 3-State Outputs; ComponentAvailability: Obsolete; Published: 8-Jun-2000; LatestRevisionDate: 16-Oct-2006; LatestRevisionNote: IPC-7351 Footprint Added.; DatasheetVersion: Apr-1996; PackageVersion: May-1999; PackageReference: DB014; Publisher: Altium Limited; PackageDescription: 14-Pin Plastic Small Outline Package 0.65 mm Pitch; Code_JEDEC: MO-150-AB; Code_IPC: SOP65P780-14; ComponentLink1Description: Manufacturer Link; ComponentLink1URL: http://www.ti.com/; ComponentLink2Description: Datasheet; ComponentLink2URL: http://www-s.ti.com/sc/ds/sn74lv125.pdf
footprint DB014_N (SOP, 14-Leads, Body 6.2x5.3mm, Pitch 0.65mm, IPC Medium Density)
footprint DB014_L (SOP, 14-Leads, Body 6.2x5.3mm, Pitch 0.65mm, IPC High Density)
footprint DB014_M (SOP, 14-Leads, Body 6.2x5.3mm, Pitch 0.65mm, IPC Low Density)
3D model DB014 (14-Pin Plastic Small Outline Package 0.65 mm Pitch)
signal-integrity model SN74LV125DBLE
pins: 1 ~{OE}1 (in), 2 A1 (in), 3 Y1 (hiz), 4 ~{OE}2 (in), 5 A2 (in), 6 Y2 (hiz), 7 GND (power), 8 Y3 (hiz), 9 A3 (in), 10 ~{OE}3 (in), 11 Y4 (hiz), 12 A4 (in), 13 ~{OE}4 (in), 14 VCC (power)

## SN74LV125PWLE
designator U?
Quadruple Bus Buffer Gate with 3-State Outputs; ComponentAvailability: Obsolete; Published: 8-Jun-2000; LatestRevisionDate: 16-Oct-2006; LatestRevisionNote: IPC-7351 Footprint Added.; DatasheetVersion: Apr-1996; PackageVersion: Feb-1999; PackageReference: PW014; Publisher: Altium Limited; PackageDescription: 14-Pin Thin Small Outline Package 0.65 mm Pitch; ComponentLink1Description: Manufacturer Link; ComponentLink1URL: http://www.ti.com/; ComponentLink2Description: Datasheet; ComponentLink2URL: http://www-s.ti.com/sc/ds/sn74lv125.pdf
footprint PW014_N (TSOP, 14-Leads, Body 5x4.4mm, Pitch 0.65mm, IPC Medium Density)
footprint PW014_L (TSOP, 14-Leads, Body 5x4.4mm, Pitch 0.65mm, IPC High Density)
footprint PW014_M (TSOP, 14-Leads, Body 5x4.4mm, Pitch 0.65mm, IPC Low Density)
3D model PW014 (14-Pin Thin Small Outline Package 0.65 mm Pitch)
signal-integrity model SN74LV125PWLE
pins: 1 ~{OE}1 (in), 2 A1 (in), 3 Y1 (hiz), 4 ~{OE}2 (in), 5 A2 (in), 6 Y2 (hiz), 7 GND (power), 8 Y3 (hiz), 9 A3 (in), 10 ~{OE}3 (in), 11 Y4 (hiz), 12 A4 (in), 13 ~{OE}4 (in), 14 VCC (power)

## SN74LV240DB
designator U?
Octal Buffer/Driver with 3-State Outputs; Published: 8-Jun-2000; LatestRevisionDate: 16-Oct-2006; LatestRevisionNote: IPC-7351 Footprint Added.; DatasheetVersion: Apr-1996; PackageVersion: May-1999; PackageReference: DB020; Publisher: Altium Limited; PackageDescription: 20-Pin Plastic Small Outline Package 0.65 mm Pitch; Code_JEDEC: MO-150-AE; Code_IPC: SOP65P780-20; ComponentLink1Description: Manufacturer Link; ComponentLink1URL: http://www.ti.com/; ComponentLink2Description: Datasheet; ComponentLink2URL: http://www-s.ti.com/sc/ds/sn74lv240.pdf
footprint DB020_N (SOP, 20-Leads, Body 7.2x5.3mm, Pitch 0.65mm, IPC Medium Density)
footprint DB020_L (SOP, 20-Leads, Body 7.2x5.3mm, Pitch 0.65mm, IPC High Density)
footprint DB020_M (SOP, 20-Leads, Body 7.2x5.3mm, Pitch 0.65mm, IPC Low Density)
3D model DB020 (20-Pin Plastic Small Outline Package 0.65 mm Pitch)
signal-integrity model SN74LV240DB
pins: 1 ~{OE}1 (in), 2 A1 (in), 3 ~{Y}8 (hiz), 4 A2 (in), 5 ~{Y}7 (hiz), 6 A3 (in), 7 ~{Y}6 (hiz), 8 A4 (in), 9 ~{Y}5 (hiz), 10 GND (power), 11 A5 (in), 12 ~{Y}4 (hiz), 13 A6 (in), 14 ~{Y}3 (hiz), 15 A7 (in), 16 ~{Y}2 (hiz), 17 A8 (in), 18 ~{Y}1 (hiz), 19 ~{OE}2 (in), 20 VCC (power)

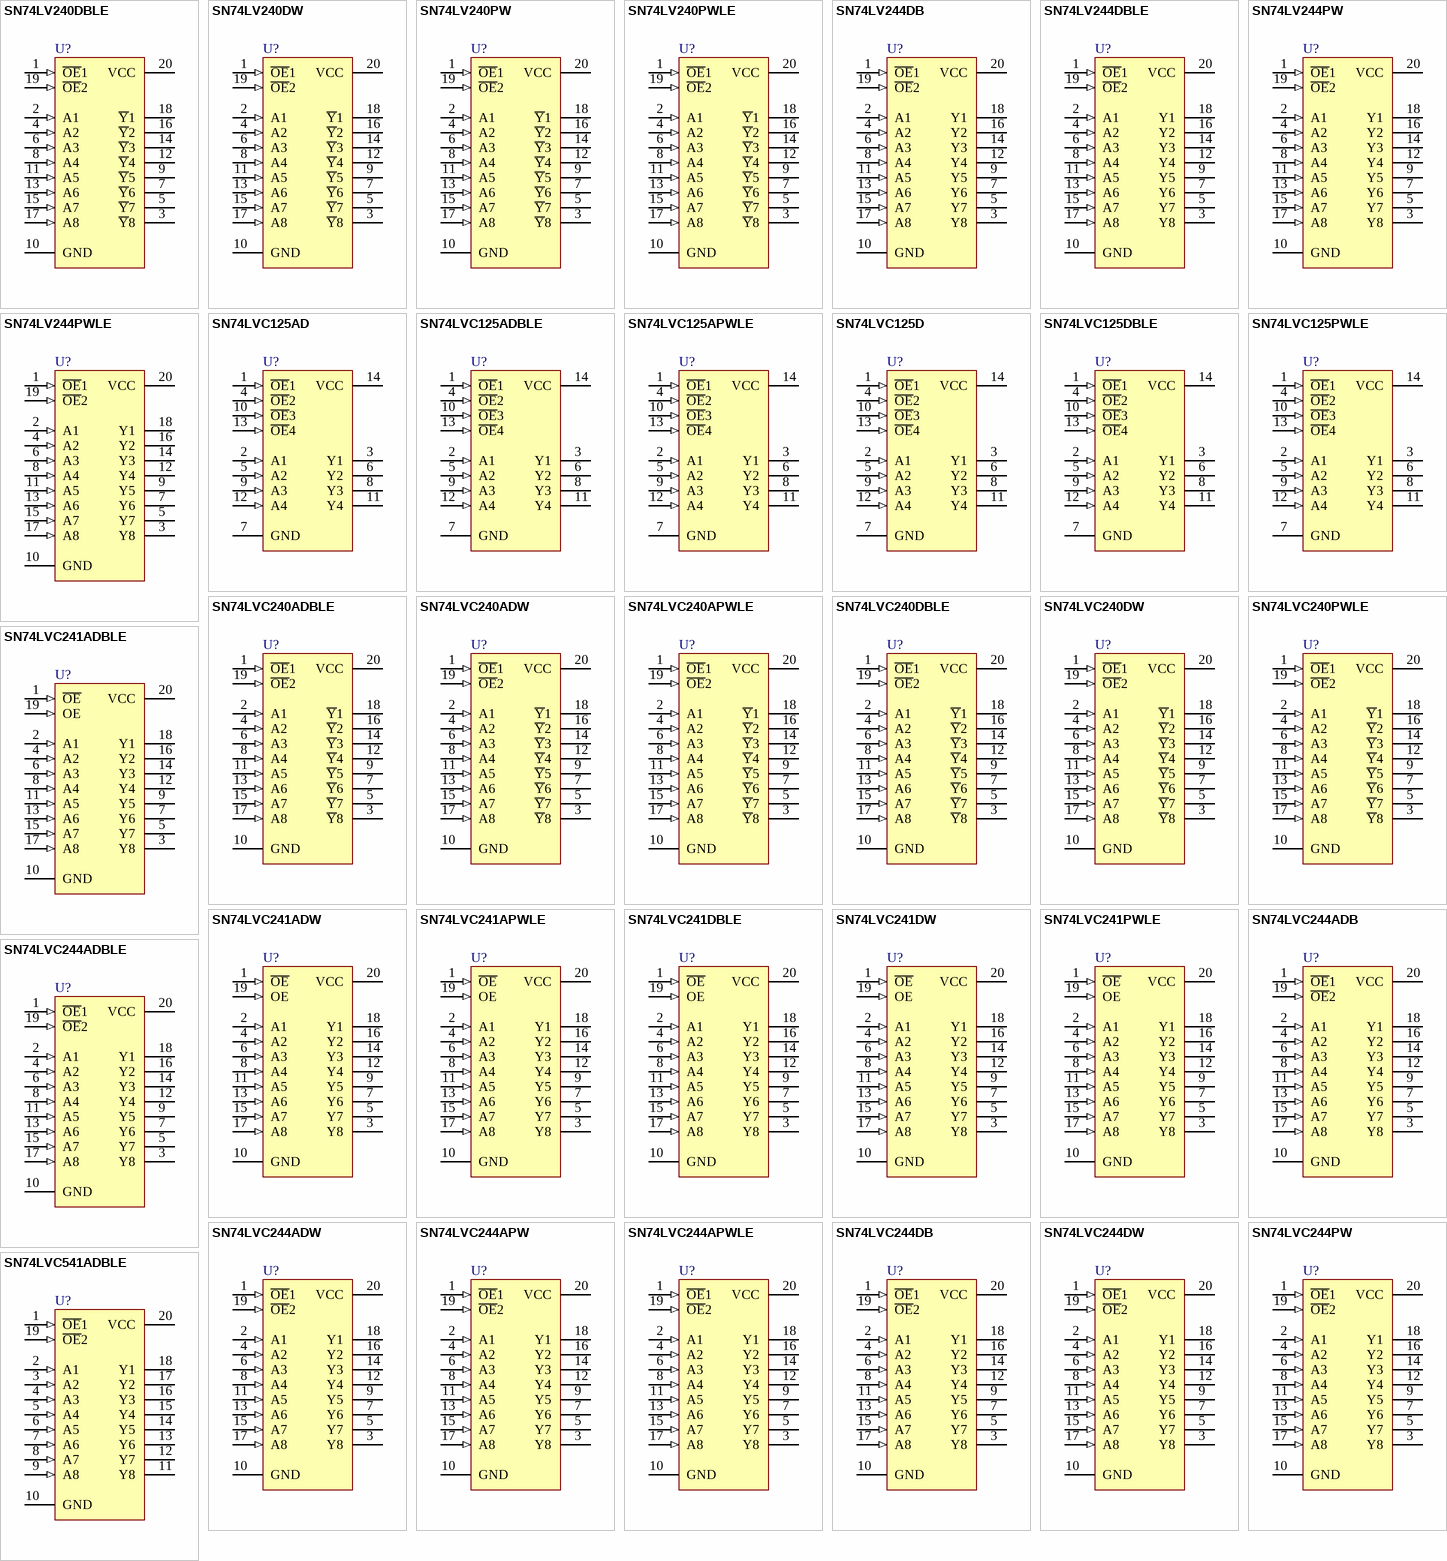
[diagram p31: symbols SN74LV240DBLE to SN74LVC541ADBLE]

## SN74LV240DBLE
designator U?
Octal Buffer/Driver with 3-State Outputs; ComponentAvailability: Obsolete; Published: 8-Jun-2000; LatestRevisionDate: 16-Oct-2006; LatestRevisionNote: IPC-7351 Footprint Added.; DatasheetVersion: Apr-1996; PackageVersion: May-1999; PackageReference: DB020; Publisher: Altium Limited; PackageDescription: 20-Pin Plastic Small Outline Package 0.65 mm Pitch; Code_JEDEC: MO-150-AE; Code_IPC: SOP65P780-20; ComponentLink1Description: Manufacturer Link; ComponentLink1URL: http://www.ti.com/; ComponentLink2Description: Datasheet; ComponentLink2URL: http://www-s.ti.com/sc/ds/sn74lv240.pdf
footprint DB020_N (SOP, 20-Leads, Body 7.2x5.3mm, Pitch 0.65mm, IPC Medium Density)
footprint DB020_L (SOP, 20-Leads, Body 7.2x5.3mm, Pitch 0.65mm, IPC High Density)
footprint DB020_M (SOP, 20-Leads, Body 7.2x5.3mm, Pitch 0.65mm, IPC Low Density)
3D model DB020 (20-Pin Plastic Small Outline Package 0.65 mm Pitch)
signal-integrity model SN74LV240DBLE
pins: 1 ~{OE}1 (in), 2 A1 (in), 3 ~{Y}8 (hiz), 4 A2 (in), 5 ~{Y}7 (hiz), 6 A3 (in), 7 ~{Y}6 (hiz), 8 A4 (in), 9 ~{Y}5 (hiz), 10 GND (power), 11 A5 (in), 12 ~{Y}4 (hiz), 13 A6 (in), 14 ~{Y}3 (hiz), 15 A7 (in), 16 ~{Y}2 (hiz), 17 A8 (in), 18 ~{Y}1 (hiz), 19 ~{OE}2 (in), 20 VCC (power)

## SN74LV240DW
designator U?
Octal Buffer/Driver with 3-State Outputs; ComponentAvailability: Obsolete; Published: 8-Jun-2000; LatestRevisionDate: 13-Apr-2006; LatestRevisionNote: IPC-7351 Footprint Added.; DatasheetVersion: Apr-1996; PackageVersion: Mar-2000; PackageReference: DW020; Publisher: Altium Limited; PackageDescription: 20-Pin Plastic Small Outline Integrated Circuit 1.27 mm Pitch; Code_JEDEC: MS-013; Code_IPC: SOIC127P1030-20; ComponentLink1Description: Manufacturer Link; ComponentLink1URL: http://www.ti.com/; ComponentLink2Description: Datasheet; ComponentLink2URL: http://www-s.ti.com/sc/ds/sn74lv240.pdf
footprint DW020_N (SOIC, 20-Leads, Body 12.8x7.5mm, Pitch 1.27mm, IPC Medium Density)
footprint DW020_L (SOIC, 20-Leads, Body 12.8x7.5mm, Pitch 1.27mm, IPC High Density)
footprint DW020_M (SOIC, 20-Leads, Body 12.8x7.5mm, Pitch 1.27mm, IPC Low Density)
3D model DW020 (20-Pin Plastic Small Outline Integrated Circuit 1.27 mm Pitch)
signal-integrity model SN74LV240DW
pins: 1 ~{OE}1 (in), 2 A1 (in), 3 ~{Y}8 (hiz), 4 A2 (in), 5 ~{Y}7 (hiz), 6 A3 (in), 7 ~{Y}6 (hiz), 8 A4 (in), 9 ~{Y}5 (hiz), 10 GND (power), 11 A5 (in), 12 ~{Y}4 (hiz), 13 A6 (in), 14 ~{Y}3 (hiz), 15 A7 (in), 16 ~{Y}2 (hiz), 17 A8 (in), 18 ~{Y}1 (hiz), 19 ~{OE}2 (in), 20 VCC (power)

## SN74LV240PW
designator U?
Octal Buffer/Driver with 3-State Outputs; Published: 8-Jun-2000; LatestRevisionDate: 16-Oct-2006; LatestRevisionNote: IPC-7351 Footprint Added.; DatasheetVersion: Apr-1996; PackageVersion: Feb-1999; PackageReference: PW020; Publisher: Altium Limited; PackageDescription: 20-Pin Thin Small Outline Package 0.65 mm Pitch; ComponentLink1Description: Manufacturer Link; ComponentLink1URL: http://www.ti.com/; ComponentLink2Description: Datasheet; ComponentLink2URL: http://www-s.ti.com/sc/ds/sn74lv240.pdf
footprint PW020_N (TSOP, 20-Leads, Body 6.5x4.4mm, Pitch 0.65mm, IPC Medium Density)
footprint PW020_L (TSOP, 20-Leads, Body 6.5x4.4mm, Pitch 0.65mm, IPC High Density)
footprint PW020_M (TSOP, 20-Leads, Body 6.5x4.4mm, Pitch 0.65mm, IPC Low Density)
3D model PW020 (20-Pin Thin Small Outline Package 0.65 mm Pitch)
signal-integrity model SN74LV240PW
pins: 1 ~{OE}1 (in), 2 A1 (in), 3 ~{Y}8 (hiz), 4 A2 (in), 5 ~{Y}7 (hiz), 6 A3 (in), 7 ~{Y}6 (hiz), 8 A4 (in), 9 ~{Y}5 (hiz), 10 GND (power), 11 A5 (in), 12 ~{Y}4 (hiz), 13 A6 (in), 14 ~{Y}3 (hiz), 15 A7 (in), 16 ~{Y}2 (hiz), 17 A8 (in), 18 ~{Y}1 (hiz), 19 ~{OE}2 (in), 20 VCC (power)

## SN74LV240PWLE
designator U?
Octal Buffer/Driver with 3-State Outputs; ComponentAvailability: Obsolete; Published: 8-Jun-2000; LatestRevisionDate: 16-Oct-2006; LatestRevisionNote: IPC-7351 Footprint Added.; DatasheetVersion: Apr-1996; PackageVersion: Feb-1999; PackageReference: PW020; Publisher: Altium Limited; PackageDescription: 20-Pin Thin Small Outline Package 0.65 mm Pitch; ComponentLink1Description: Manufacturer Link; ComponentLink1URL: http://www.ti.com/; ComponentLink2Description: Datasheet; ComponentLink2URL: http://www-s.ti.com/sc/ds/sn74lv240.pdf
footprint PW020_N (TSOP, 20-Leads, Body 6.5x4.4mm, Pitch 0.65mm, IPC Medium Density)
footprint PW020_L (TSOP, 20-Leads, Body 6.5x4.4mm, Pitch 0.65mm, IPC High Density)
footprint PW020_M (TSOP, 20-Leads, Body 6.5x4.4mm, Pitch 0.65mm, IPC Low Density)
3D model PW020 (20-Pin Thin Small Outline Package 0.65 mm Pitch)
signal-integrity model SN74LV240PWLE
pins: 1 ~{OE}1 (in), 2 A1 (in), 3 ~{Y}8 (hiz), 4 A2 (in), 5 ~{Y}7 (hiz), 6 A3 (in), 7 ~{Y}6 (hiz), 8 A4 (in), 9 ~{Y}5 (hiz), 10 GND (power), 11 A5 (in), 12 ~{Y}4 (hiz), 13 A6 (in), 14 ~{Y}3 (hiz), 15 A7 (in), 16 ~{Y}2 (hiz), 17 A8 (in), 18 ~{Y}1 (hiz), 19 ~{OE}2 (in), 20 VCC (power)

## SN74LV244DB
designator U?
Octal Buffer/Driver with 3-State Outputs; Published: 8-Jun-2000; LatestRevisionDate: 16-Oct-2006; LatestRevisionNote: IPC-7351 Footprint Added.; DatasheetVersion: Apr-1996; PackageVersion: May-1999; PackageReference: DB020; Publisher: Altium Limited; PackageDescription: 20-Pin Plastic Small Outline Package 0.65 mm Pitch; Code_JEDEC: MO-150-AE; Code_IPC: SOP65P780-20; ComponentLink1Description: Manufacturer Link; ComponentLink1URL: http://www.ti.com/; ComponentLink2Description: Datasheet; ComponentLink2URL: http://www-s.ti.com/sc/ds/sn74lv244.pdf
footprint DB020_N (SOP, 20-Leads, Body 7.2x5.3mm, Pitch 0.65mm, IPC Medium Density)
footprint DB020_L (SOP, 20-Leads, Body 7.2x5.3mm, Pitch 0.65mm, IPC High Density)
footprint DB020_M (SOP, 20-Leads, Body 7.2x5.3mm, Pitch 0.65mm, IPC Low Density)
3D model DB020 (20-Pin Plastic Small Outline Package 0.65 mm Pitch)
signal-integrity model SN74LV244DB
pins: 1 ~{OE}1 (in), 2 A1 (in), 3 Y8 (hiz), 4 A2 (in), 5 Y7 (hiz), 6 A3 (in), 7 Y6 (hiz), 8 A4 (in), 9 Y5 (hiz), 10 GND (power), 11 A5 (in), 12 Y4 (hiz), 13 A6 (in), 14 Y3 (hiz), 15 A7 (in), 16 Y2 (hiz), 17 A8 (in), 18 Y1 (hiz), 19 ~{OE}2 (in), 20 VCC (power)

## SN74LV244DBLE
designator U?
Octal Buffer/Driver with 3-State Outputs; ComponentAvailability: Obsolete; Published: 8-Jun-2000; LatestRevisionDate: 16-Oct-2006; LatestRevisionNote: IPC-7351 Footprint Added.; DatasheetVersion: Apr-1996; PackageVersion: May-1999; PackageReference: DB020; Publisher: Altium Limited; PackageDescription: 20-Pin Plastic Small Outline Package 0.65 mm Pitch; Code_JEDEC: MO-150-AE; Code_IPC: SOP65P780-20; ComponentLink1Description: Manufacturer Link; ComponentLink1URL: http://www.ti.com/; ComponentLink2Description: Datasheet; ComponentLink2URL: http://www-s.ti.com/sc/ds/sn74lv244.pdf
footprint DB020_N (SOP, 20-Leads, Body 7.2x5.3mm, Pitch 0.65mm, IPC Medium Density)
footprint DB020_L (SOP, 20-Leads, Body 7.2x5.3mm, Pitch 0.65mm, IPC High Density)
footprint DB020_M (SOP, 20-Leads, Body 7.2x5.3mm, Pitch 0.65mm, IPC Low Density)
3D model DB020 (20-Pin Plastic Small Outline Package 0.65 mm Pitch)
signal-integrity model SN74LV244DBLE
pins: 1 ~{OE}1 (in), 2 A1 (in), 3 Y8 (hiz), 4 A2 (in), 5 Y7 (hiz), 6 A3 (in), 7 Y6 (hiz), 8 A4 (in), 9 Y5 (hiz), 10 GND (power), 11 A5 (in), 12 Y4 (hiz), 13 A6 (in), 14 Y3 (hiz), 15 A7 (in), 16 Y2 (hiz), 17 A8 (in), 18 Y1 (hiz), 19 ~{OE}2 (in), 20 VCC (power)

## SN74LV244PW
designator U?
Octal Buffer/Driver with 3-State Outputs; Published: 8-Jun-2000; LatestRevisionDate: 16-Oct-2006; LatestRevisionNote: IPC-7351 Footprint Added.; DatasheetVersion: Apr-1996; PackageVersion: Feb-1999; PackageReference: PW020; Publisher: Altium Limited; PackageDescription: 20-Pin Thin Small Outline Package 0.65 mm Pitch; ComponentLink1Description: Manufacturer Link; ComponentLink1URL: http://www.ti.com/; ComponentLink2Description: Datasheet; ComponentLink2URL: http://www-s.ti.com/sc/ds/sn74lv244.pdf
footprint PW020_N (TSOP, 20-Leads, Body 6.5x4.4mm, Pitch 0.65mm, IPC Medium Density)
footprint PW020_L (TSOP, 20-Leads, Body 6.5x4.4mm, Pitch 0.65mm, IPC High Density)
footprint PW020_M (TSOP, 20-Leads, Body 6.5x4.4mm, Pitch 0.65mm, IPC Low Density)
3D model PW020 (20-Pin Thin Small Outline Package 0.65 mm Pitch)
signal-integrity model SN74LV244PW
pins: 1 ~{OE}1 (in), 2 A1 (in), 3 Y8 (hiz), 4 A2 (in), 5 Y7 (hiz), 6 A3 (in), 7 Y6 (hiz), 8 A4 (in), 9 Y5 (hiz), 10 GND (power), 11 A5 (in), 12 Y4 (hiz), 13 A6 (in), 14 Y3 (hiz), 15 A7 (in), 16 Y2 (hiz), 17 A8 (in), 18 Y1 (hiz), 19 ~{OE}2 (in), 20 VCC (power)

## SN74LV244PWLE
designator U?
Octal Buffer/Driver with 3-State Outputs; ComponentAvailability: Obsolete; Published: 8-Jun-2000; LatestRevisionDate: 16-Oct-2006; LatestRevisionNote: IPC-7351 Footprint Added.; DatasheetVersion: Apr-1996; PackageVersion: Feb-1999; PackageReference: PW020; Publisher: Altium Limited; PackageDescription: 20-Pin Thin Small Outline Package 0.65 mm Pitch; ComponentLink1Description: Manufacturer Link; ComponentLink1URL: http://www.ti.com/; ComponentLink2Description: Datasheet; ComponentLink2URL: http://www-s.ti.com/sc/ds/sn74lv244.pdf
footprint PW020_N (TSOP, 20-Leads, Body 6.5x4.4mm, Pitch 0.65mm, IPC Medium Density)
footprint PW020_L (TSOP, 20-Leads, Body 6.5x4.4mm, Pitch 0.65mm, IPC High Density)
footprint PW020_M (TSOP, 20-Leads, Body 6.5x4.4mm, Pitch 0.65mm, IPC Low Density)
3D model PW020 (20-Pin Thin Small Outline Package 0.65 mm Pitch)
signal-integrity model SN74LV244PWLE
pins: 1 ~{OE}1 (in), 2 A1 (in), 3 Y8 (hiz), 4 A2 (in), 5 Y7 (hiz), 6 A3 (in), 7 Y6 (hiz), 8 A4 (in), 9 Y5 (hiz), 10 GND (power), 11 A5 (in), 12 Y4 (hiz), 13 A6 (in), 14 Y3 (hiz), 15 A7 (in), 16 Y2 (hiz), 17 A8 (in), 18 Y1 (hiz), 19 ~{OE}2 (in), 20 VCC (power)

## SN74LVC125AD
designator U?
Quadruple Bus Buffer Gate with 3-State Outputs; Published: 8-Jun-2000; LatestRevisionDate: 13-Apr-2006; LatestRevisionNote: IPC-7351 Footprint Added.; DatasheetVersion: Jun-1998; PackageVersion: Jan-1998; PackageReference: D014; Publisher: Altium Limited; PackageDescription: 14-Pin Small Outline Integrated Circuit 1.27 mm Pitch; Code_IPC: SOIC127P600-14; ComponentLink1Description: Manufacturer Link; ComponentLink1URL: http://www.ti.com/; ComponentLink2Description: Datasheet; ComponentLink2URL: http://www-s.ti.com/sc/ds/sn74lvc125a.pdf
footprint D014_N (SOIC, 14-Leads, Body 8.7x3.9mm, Pitch 1.27mm, IPC Medium Density)
footprint D014_L (SOIC, 14-Leads, Body 8.7x3.9mm, Pitch 1.27mm, IPC High Density)
footprint D014_M (SOIC, 14-Leads, Body 8.7x3.9mm, Pitch 1.27mm, IPC Low Density)
3D model D014 (14-Pin Small Outline Integrated Circuit 1.27 mm Pitch)
signal-integrity model SN74LVC125AD
pins: 1 ~{OE}1 (in), 2 A1 (in), 3 Y1 (hiz), 4 ~{OE}2 (in), 5 A2 (in), 6 Y2 (hiz), 7 GND (power), 8 Y3 (hiz), 9 A3 (in), 10 ~{OE}3 (in), 11 Y4 (hiz), 12 A4 (in), 13 ~{OE}4 (in), 14 VCC (power)

## SN74LVC125ADBLE
designator U?
Quadruple Bus Buffer Gate with 3-State Outputs; ComponentAvailability: Obsolete; Published: 8-Jun-2000; LatestRevisionDate: 16-Oct-2006; LatestRevisionNote: IPC-7351 Footprint Added.; DatasheetVersion: Jun-1998; PackageVersion: May-1999; PackageReference: DB014; Publisher: Altium Limited; PackageDescription: 14-Pin Plastic Small Outline Package 0.65 mm Pitch; Code_JEDEC: MO-150-AB; Code_IPC: SOP65P780-14; ComponentLink1Description: Manufacturer Link; ComponentLink1URL: http://www.ti.com/; ComponentLink2Description: Datasheet; ComponentLink2URL: http://www-s.ti.com/sc/ds/sn74lvc125a.pdf
footprint DB014_N (SOP, 14-Leads, Body 6.2x5.3mm, Pitch 0.65mm, IPC Medium Density)
footprint DB014_L (SOP, 14-Leads, Body 6.2x5.3mm, Pitch 0.65mm, IPC High Density)
footprint DB014_M (SOP, 14-Leads, Body 6.2x5.3mm, Pitch 0.65mm, IPC Low Density)
3D model DB014 (14-Pin Plastic Small Outline Package 0.65 mm Pitch)
signal-integrity model SN74LVC125ADBLE
pins: 1 ~{OE}1 (in), 2 A1 (in), 3 Y1 (hiz), 4 ~{OE}2 (in), 5 A2 (in), 6 Y2 (hiz), 7 GND (power), 8 Y3 (hiz), 9 A3 (in), 10 ~{OE}3 (in), 11 Y4 (hiz), 12 A4 (in), 13 ~{OE}4 (in), 14 VCC (power)

## SN74LVC125APWLE
designator U?
Quadruple Bus Buffer Gate with 3-State Outputs; ComponentAvailability: Obsolete; Published: 8-Jun-2000; LatestRevisionDate: 16-Oct-2006; LatestRevisionNote: IPC-7351 Footprint Added.; DatasheetVersion: Jun-1998; PackageVersion: Feb-1999; PackageReference: PW014; Publisher: Altium Limited; PackageDescription: 14-Pin Thin Small Outline Package 0.65 mm Pitch; ComponentLink1Description: Manufacturer Link; ComponentLink1URL: http://www.ti.com/; ComponentLink2Description: Datasheet; ComponentLink2URL: http://www-s.ti.com/sc/ds/sn74lvc125a.pdf
footprint PW014_N (TSOP, 14-Leads, Body 5x4.4mm, Pitch 0.65mm, IPC Medium Density)
footprint PW014_L (TSOP, 14-Leads, Body 5x4.4mm, Pitch 0.65mm, IPC High Density)
footprint PW014_M (TSOP, 14-Leads, Body 5x4.4mm, Pitch 0.65mm, IPC Low Density)
3D model PW014 (14-Pin Thin Small Outline Package 0.65 mm Pitch)
signal-integrity model SN74LVC125APWLE
pins: 1 ~{OE}1 (in), 2 A1 (in), 3 Y1 (hiz), 4 ~{OE}2 (in), 5 A2 (in), 6 Y2 (hiz), 7 GND (power), 8 Y3 (hiz), 9 A3 (in), 10 ~{OE}3 (in), 11 Y4 (hiz), 12 A4 (in), 13 ~{OE}4 (in), 14 VCC (power)